# Altium footprint library SPARK_GAP.PcbLib: 1 footprints
Each footprint in its own frame and in the unit in brackets; x right, y up, seen from the top. Pads: shape width x height; smd on the part's side, far side on the other; paste and mask are expansions set on the pad; w line width, h text height; cw(c..) or ccw(c..) is an arc to the next point about the centre after c.
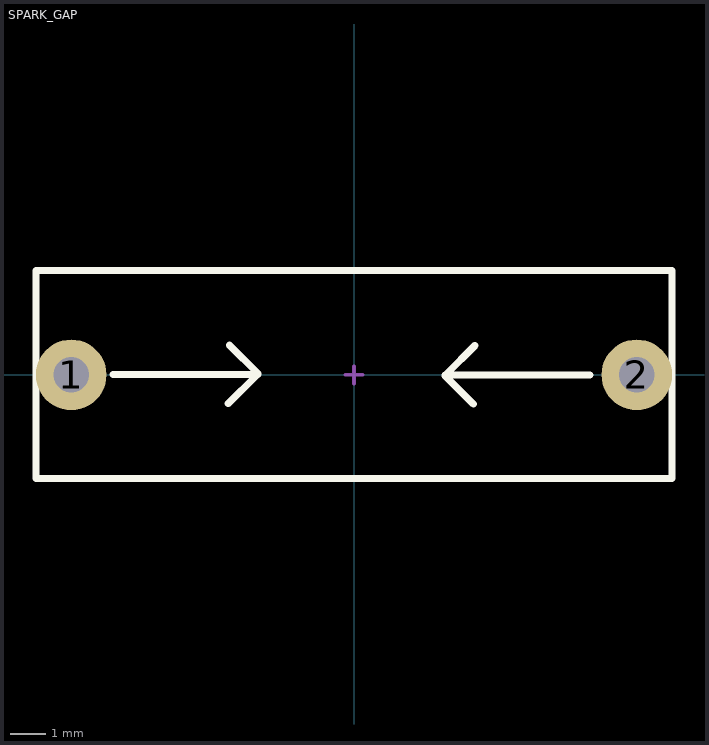
[diagram p0: the footprint, top view; thin cyan lines are the x and y axes]

## SPARK_GAP [mm]
height 0.55
pads (2):
  round 2 hole 1: 1(-8,0) 2(8,0)
Top Overlay:
  lines w0.2: -6.817,0.012 -2.717,0.012 ; -3.557,-0.813 -2.757,-0.013 ; -3.517,0.837 -2.717,0.037 ; 2.615,0.026 3.415,0.826 ; 3.375,-0.825 2.575,-0.025 2.575,0 ; 6.675,0 2.575,0 ; 2.575,0 2.575,0 ; -9,-2.925 -9,2.95 9,2.95 9,-2.925 -9,-2.925
Top Assembly:
  lines w0.1: -0.25,0 0.25,0 ; 0,-0.25 0,0.25 ; -9,-2.9 -9,2.975 9,2.975 9,-2.9 -9,-2.9
  text "'.Designator'" at 0,0 h0.7